# Altium schematic symbol library LED.SchLib: 41 symbols
Pins are listed as number, name and electrical type; pins without a type are passive.

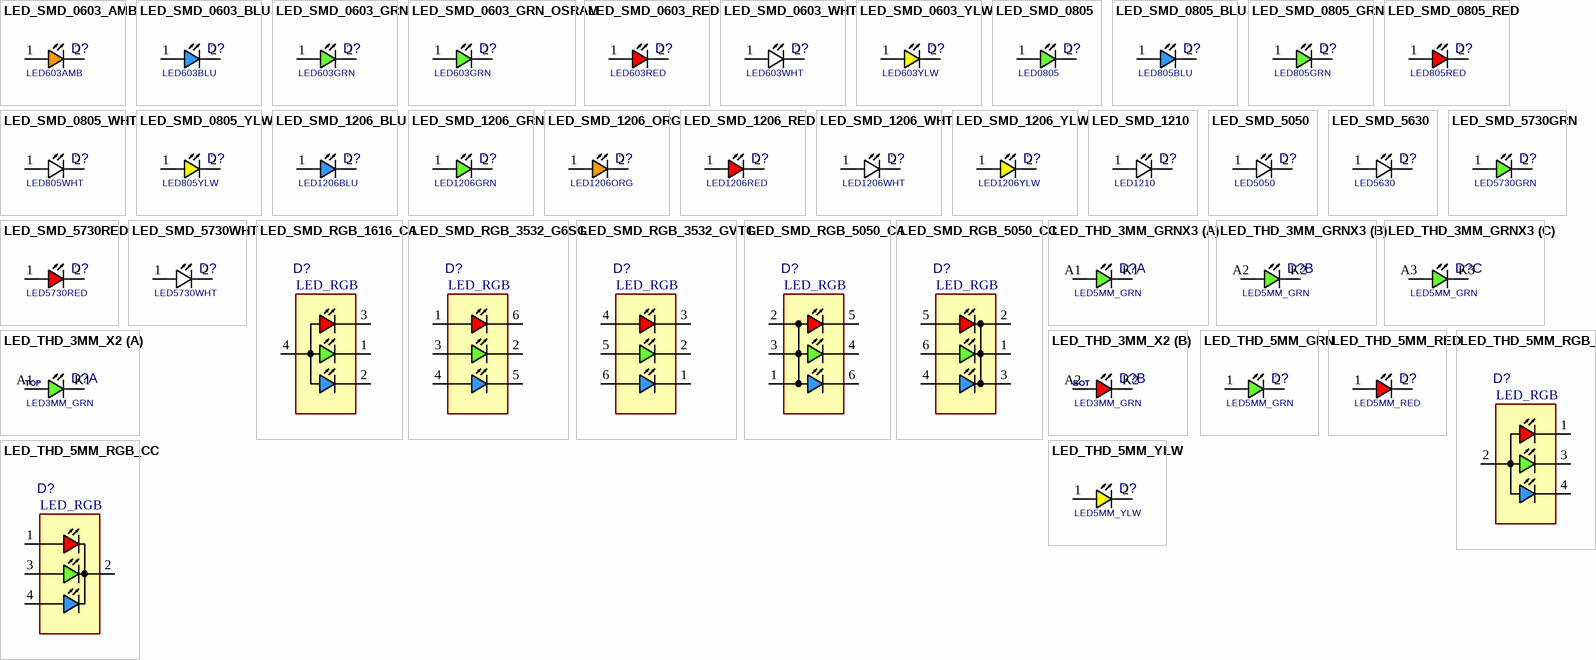
[diagram p0: symbols LED_SMD_0603_AMB to LED_THD_5MM_YLW]

## LED_SMD_0603_AMB
designator D?, comment LED603AMB
LED, SMD, 0603, AMBER, 606nm; PARAM: 30mA; MANF: OSRAM; DESC: DESCRIPTION; MANF_P#: L29K-H2K1-24-Z; PARAM2: 1.8V; ASSEMBLY: ASSEMBLY; PRICE: PRICE; VALUE: LED603AMB
footprint LED0603AMB (LED SMD 0603, AMBER)
pins: 1 ANODE, 2 CATHODE

## LED_SMD_0603_BLU
designator D?, comment LED603BLU
LED, SMD, 0603, BLUE; PARAM: 30mA, 470nm, 120° Angle; DESC: DESCRIPTION; MANF_P#: MANF_PART#; PARAM2: 2.2~3V; MANF: MANF; ASSEMBLY: ASSEMBLY; PRICE: PRICE; VALUE: LED603BLU
footprint LED0603BLU (LED SMD 0603, BLUE)
pins: 1 ANODE, 2 CATHODE

## LED_SMD_0603_GRN
designator D?, comment LED603GRN
LED, SMD, 0603, GREEN; PARAM: 20mA; MANF: Kingbright; DESC: DESCRIPTION; MANF_P#: APT1608SGC; PARAM2: 2.2V; ASSEMBLY: ASSEMBLY; PRICE: 1: 0.14$, 100: 6.8$; VALUE: LED603GRN
footprint LED0603GRN (LED SMD 0603, GREEN)
pins: 1 ANODE, 2 CATHODE

## LED_SMD_0603_GRN_OSRAM
designator D?, comment LED603GRN
LED, SMD, 0603, GREEN; PARAM: 20mA; MANF: OSRAM; DESC: DESCRIPTION; MANF_P#: LG Q396-PS-35; PARAM2: 2.2V; ASSEMBLY: ASSEMBLY; PRICE: 0.36$; VALUE: LED603GRN
footprint LED0603GRN (LED SMD 0603, GREEN)
pins: 1 ANODE, 2 CATHODE

## LED_SMD_0603_RED
designator D?, comment LED603RED
LED, SMD, 0603, RED; PARAM: 30mA, 640nm; DESC: DESCRIPTION; MANF_P#: MANF_PART#; PARAM2: 1.8~2.5V; MANF: MANF; ASSEMBLY: ASSEMBLY; PRICE: PRICE; VALUE: LED603RED
footprint LED0603RED (LED SMD 0603, RED)
pins: 1 ANODE, 2 CATHODE

## LED_SMD_0603_WHT
designator D?, comment LED603WHT
LED, SMD, 0603, WHITE; PARAM: 30mA; DESC: DESCRIPTION; MANF_P#: MANF_PART#; PARAM2: 2.7~4V; MANF: MANF; ASSEMBLY: ASSEMBLY; PRICE: PRICE; VALUE: LED603WHT
footprint LED0603WHT (LED SMD 0603, WHITE)
pins: 1 ANODE, 2 CATHODE

## LED_SMD_0603_YLW
designator D?, comment LED603YLW
LED, SMD, 0603, YELLOW; DESC: DESCRIPTION; MANF_P#: MANF_PART#; PARAM2: 2.2V; MANF: MANF; ASSEMBLY: ASSEMBLY; PRICE: PRICE; VALUE: LED603YLW
footprint LED0603YLW (LED SMD 0603, YELLOW)
pins: 1 ANODE, 2 CATHODE

## LED_SMD_0805
designator D?, comment LED0805
LED, SMD, 0805; DESC: DESCRIPTION; MANF_P#: MANF_PART#; PARAM2: 2.2V; MANF: MANF; ASSEMBLY: ASSEMBLY; PRICE: PRICE; VALUE: LED0805
footprint LED0805 (0805LED)
footprint LED0805SIDE (Footprint not found)
pins: 1 ANODE, 2 CATHODE

## LED_SMD_0805_BLU
designator D?, comment LED805BLU
LED, SMD, 0805, BLUE; DESC: DESCRIPTION; MANF_P#: MANF_PART#; PARAM2: 2.2V; MANF: MANF; ASSEMBLY: ASSEMBLY; PRICE: 36t@Javan; VALUE: LED805BLU
footprint LED0805BLU (LED SMD 0805, BLUE)
pins: 1 ANODE, 2 CATHODE

## LED_SMD_0805_GRN
designator D?, comment LED805GRN
LED, SMD, 0805, GREEN; PARAM: 20mA; DESC: DESCRIPTION; PARAM2: 2.2V; MANF: -; ASSEMBLY: ASSEMBLY; PRICE: 36t@Javan; MANF_P#: -; VALUE: LED805GRN
footprint LED0805GRN (LED SMD 0805, GREEN)
pins: 1 ANODE, 2 CATHODE

## LED_SMD_0805_RED
designator D?, comment LED805RED
LED, SMD, 0805, RED; DESC: DESCRIPTION; MANF_P#: MANF_PART#; PARAM2: 2.2V; MANF: MANF; ASSEMBLY: ASSEMBLY; PRICE: 36t@Javan; VALUE: LED805RED
footprint LED0805RED (LED SMD 0805, RED)
pins: 1 ANODE, 2 CATHODE

## LED_SMD_0805_WHT
designator D?, comment LED805WHT
LED, SMD, 0805, WHITE; DESC: DESCRIPTION; MANF_P#: MANF_PART#; PARAM2: 2.2V; MANF: MANF; ASSEMBLY: ASSEMBLY; PRICE: 36t@Javan; VALUE: LED805WHT
footprint LED0805WHT (LED SMD 0805, WHITE)
pins: 1 ANODE, 2 CATHODE

## LED_SMD_0805_YLW
designator D?, comment LED805YLW
LED, SMD, 0805, YELLOW; DESC: DESCRIPTION; MANF_P#: MANF_PART#; PARAM2: 2.2V; MANF: MANF; ASSEMBLY: ASSEMBLY; PRICE: 36t@Javan; VALUE: LED805YLW
footprint LED0805YLW (LED SMD 0805, YELLOW)
pins: 1 ANODE, 2 CATHODE

## LED_SMD_1206_BLU
designator D?, comment LED1206BLU
LED, SMD, 1206, BLUE; DESC: DESCRIPTION; MANF_P#: MANF_PART#; PARAM2: 2.2V; MANF: MANF; ASSEMBLY: ASSEMBLY; PRICE: 36t@Javan; VALUE: LED1206BLU
footprint LED1206BLU (LED, 1206, BLUE)
pins: 1 ANODE, 2 CATHODE

## LED_SMD_1206_GRN
designator D?, comment LED1206GRN
LED, SMD, 1206, GREEN; PARAM: 20mA; DESC: DESCRIPTION; PARAM2: 2.2V; MANF: -; ASSEMBLY: ASSEMBLY; PRICE: 36t@Javan; MANF_P#: -; VALUE: LED1206GRN
footprint LED1206GRN (LED, 1206, GREEN)
pins: 1 ANODE, 2 CATHODE

## LED_SMD_1206_ORG
designator D?, comment LED1206ORG
LED, SMD, 1206, ORANGE; DESC: DESCRIPTION; MANF_P#: MANF_PART#; PARAM2: 2.2V; MANF: MANF; ASSEMBLY: ASSEMBLY; PRICE: 36t@Javan; VALUE: LED1206ORG
footprint LED1206ORG (LED, 1206, ORANGE)
pins: 1 ANODE, 2 CATHODE

## LED_SMD_1206_RED
designator D?, comment LED1206RED
LED, SMD, 1206, RED; DESC: DESCRIPTION; MANF_P#: MANF_PART#; PARAM2: 2.2V; MANF: MANF; ASSEMBLY: ASSEMBLY; PRICE: 36t@Javan; VALUE: LED1206RED
footprint LED1206RED (LED, 1206, RED)
pins: 1 ANODE, 2 CATHODE

## LED_SMD_1206_WHT
designator D?, comment LED1206WHT
LED, SMD, 1206, WHITE; DESC: DESCRIPTION; MANF_P#: MANF_PART#; PARAM2: 2.2V; MANF: MANF; ASSEMBLY: ASSEMBLY; PRICE: 36t@Javan; VALUE: LED1206WHT
footprint LED1206WHT (LED, 1206, WHITE)
pins: 1 ANODE, 2 CATHODE

## LED_SMD_1206_YLW
designator D?, comment LED1206YLW
LED, SMD, 1206, YELLOW; DESC: DESCRIPTION; MANF_P#: MANF_PART#; PARAM2: 2.2V; MANF: MANF; ASSEMBLY: ASSEMBLY; PRICE: 36t@Javan; VALUE: LED1206YLW
footprint LED1206YLW (LED, 1206, YELLOW)
pins: 1 ANODE, 2 CATHODE

## LED_SMD_1210
designator D?, comment LED1210
LED, SMD, 1210; DESC: DESCRIPTION; MANF_P#: MANF_PART#; PARAM2: 2.2V; MANF: MANF; ASSEMBLY: ASSEMBLY; PRICE: PRICE; VALUE: LED1210
footprint LED1210
pins: 1 ANODE, 2 CATHODE

## LED_SMD_5050
designator D?, comment LED5050
LED, SMD, 5050; DESC: DESCRIPTION; MANF_P#: MANF_PART#; PARAM2: 2.2V; MANF: MANF; ASSEMBLY: ASSEMBLY; PRICE: PRICE; VALUE: LED5050
footprint LED5050 (LED 5mmX5mm)
pins: 1 ANODE, 2 CATHODE

## LED_SMD_5630
designator D?, comment LED5630
LED, SMD, 5630; DESC: DESCRIPTION; MANF_P#: MANF_PART#; PARAM2: 2.2V; MANF: MANF; ASSEMBLY: ASSEMBLY; PRICE: PRICE; VALUE: LED5630
footprint LED5630 (LED 5.6mmX3mm)
pins: 1 ANODE, 2 CATHODE

## LED_SMD_5730GRN
designator D?, comment LED5730GRN
LED, SMD, 5730 GREEN; MANF: CHINA; DESC: DESCRIPTION; MANF_P#: GBG-5730TGKT; PARAM2: 2.2V; ASSEMBLY: ASSEMBLY; PRICE: 50@Javan; VALUE: LED5730GRN
footprint LED5730 (LED 5.7mmX3mm)
pins: 1 ANODE, 2 CATHODE

## LED_SMD_5730RED
designator D?, comment LED5730RED
LED, SMD, 5730 RED; MANF: CHINA; DESC: DESCRIPTION; PARAM2: 2.2V; ASSEMBLY: ASSEMBLY; PRICE: 50@Javan; VALUE: LED5730RED
footprint LED5730 (LED 5.7mmX3mm)
pins: 1 ANODE, 2 CATHODE

## LED_SMD_5730WHT
designator D?, comment LED5730WHT
LED, SMD, 5730 WHITE; DESC: DESCRIPTION; MANF_P#: MANF_PART#; PARAM2: 2.2V; MANF: MANF; ASSEMBLY: ASSEMBLY; PRICE: 50t@Javan; VALUE: LED5730WHT
footprint LED5730 (LED 5.7mmX3mm)
pins: 1 ANODE, 2 CATHODE

## LED_SMD_RGB_1616_CA
designator D?, comment LED_RGB
LED, SMD, RGB COMMON ANODE; MANF_P#: LTST-C19HE1WT; MANF: Lite-On; DESC: DESCRIPTION; ASSEMBLY: ASSEMBLY; PRICE: PRICE; VALUE: LED_RGB
footprint LED0606RGB (1.6x1.6mm  RGB LED LTST-C19HE1WT)
pins: 1 GREEN, 2 BLUE, 3 RED, 4 ANODE

## LED_SMD_RGB_3532_G6SG
designator D?, comment LED_RGB
LED, SMD, RGB G6SG; MANF_P#: LRTB G6SG-U4AA-1+V2A6-25+S1T; MANF: OSRAM; PARAM: 50mA, 120°; DESC: DESCRIPTION; PARAM2: RED1.8V, GRN2.9V, BLU2.9V; ASSEMBLY: ASSEMBLY; PRICE: PRICE; VALUE: LED_RGB
footprint LED3532RGB (LED 3.5mmX3.2mm, LRTB G6SG PLLC6)
pins: 1 A1, 2 C2, 3 A2, 4 A3, 5 C3, 6 C1

## LED_SMD_RGB_3532_GVTG
designator D?, comment LED_RGB
LED, SMD, RGB GVTG; MANF_P#: LRTB GVTG-U5V5-1+A5B5-29+S9T; MANF: OSRAM; PARAM: 50mA, 120°; DESC: DESCRIPTION; PARAM2: RED1.8V, GRN2.9V, BLU2.9V; ASSEMBLY: ASSEMBLY; PRICE: PRICE; VALUE: LED_RGB
footprint LED3532RGB (LED 3.5mmX3.2mm, LRTB G6SG PLLC6)
pins: 1 C3, 2 C2, 3 C1, 4 A1, 5 A2, 6 A3

## LED_SMD_RGB_5050_CA
designator D?, comment LED_RGB
LED, SMD, RGB COMMON ANODE; PARAM: 30mA, 120°; DESC: DESCRIPTION; PARAM2: RED2V, GRN3.2V, BLU3.2V; MANF_P#: -; MANF: -; ASSEMBLY: ASSEMBLY; PRICE: 80t@JAVAN; VALUE: LED_RGB
footprint LED5050RGB (LED 5mmX5mm, PLLC6)
pins: 1 AB, 2 AG, 3 AR, 4 RED, 5 GRN, 6 BLU

## LED_SMD_RGB_5050_CC
designator D?, comment LED_RGB
LED, SMD, RGB COMMON CATHODE; PARAM: 30mA, 120°; DESC: DESCRIPTION; PARAM2: RED2V, GRN3.2V, BLU3.2V; MANF_P#: -; MANF: -; ASSEMBLY: ASSEMBLY; PRICE: 95t@JAVAN; VALUE: LED_RGB
footprint LED5050RGB (LED 5mmX5mm, PLLC6)
pins: 1 RED, 2 GRN, 3 BLU, 4 AB, 5 AG, 6 AR

## LED_THD_3MM_GRNX3
designator D?, comment LED5MM_GRN
LED, THD, 5MM, GREEN TRI LEVEL; DESC: DESCRIPTION; MANF_P#: MANF_PART#; PARAM2: 2.2V; MANF: MANF; ASSEMBLY: ASSEMBLY; PRICE: PRICE; VALUE: LED5MM_GRN
footprint LED3MMRX3 (Footprint not found)
part A pins: A1 ANODE, K1 CATHODE
part B pins: A2 ANODE, K2 CATHODE
part C pins: A3 ANODE, K3 CATHODE

## LED_THD_3MM_X2
designator D?, comment LED3MM_GRN
LED, THD, 3MM, DUAL LEVEL; MANF: Dialight; DESC: DESCRIPTION; MANF_P#: 553-0121F; PARAM2: 2.2V; ASSEMBLY: ASSEMBLY; PRICE: PRICE; VALUE: LED3MM_GRN
footprint LED3MMRX2 (Footprint not found)
part A pins: A1 ANODE, K1 CATHODE
part B pins: A2 ANODE, K2 CATHODE
part A text: TOP
part B text: BOT

## LED_THD_5MM_GRN
designator D?, comment LED5MM_GRN
LED, THD, 5MM, GREEN; DESC: DESCRIPTION; MANF_P#: MANF_PART#; PARAM2: 2.2V; MANF: MANF; ASSEMBLY: ASSEMBLY; PRICE: PRICE; VALUE: LED5MM_GRN
footprint LED5MM_GRN (LED 5MM THROUGH HOLE GREEN)
pins: 1 ANODE, 2 CATHODE

## LED_THD_5MM_RED
designator D?, comment LED5MM_RED
LED, THD, 5MM, RED; DESC: DESCRIPTION; MANF_P#: MANF_PART#; PARAM2: 2.2V; MANF: MANF; ASSEMBLY: ASSEMBLY; PRICE: PRICE; VALUE: LED5MM_RED
footprint LED5MM_RED (LED 5MM THROUGH HOLE RED)
pins: 1 ANODE, 2 CATHODE

## LED_THD_5MM_RGB_CA
designator D?, comment LED_RGB
LED, THD, 5MM, RGB COMMON CATHODE; MANF_P#: YSL-R596CR3G4B5C-C10; MANF: CHINA YOUNG; DESC: DESCRIPTION; ASSEMBLY: ASSEMBLY; PRICE: PRICE; VALUE: LED_RGB
footprint LED5RGB (Footprint not found)
pins: 1 RED, 2 C, 3 GRN, 4 BLU

## LED_THD_5MM_RGB_CC
designator D?, comment LED_RGB
LED, THD, 5MM, RGB COMMON CATHODE; MANF_P#: YSL-R596CR3G4B5C-C10; MANF: CHINA YOUNG; DESC: DESCRIPTION; ASSEMBLY: ASSEMBLY; PRICE: PRICE; VALUE: LED_RGB
footprint LED5RGB (Footprint not found)
pins: 1 RED, 2 C, 3 GRN, 4 BLU

## LED_THD_5MM_YLW
designator D?, comment LED5MM_YLW
LED, THD, 5MM, YELLOW; DESC: DESCRIPTION; MANF_P#: MANF_PART#; PARAM2: 2.2V; MANF: MANF; ASSEMBLY: ASSEMBLY; PRICE: PRICE; VALUE: LED5MM_YLW
footprint LED5MM_YLO (LED 5MM THROUGH HOLE YELLOW)
pins: 1 ANODE, 2 CATHODE

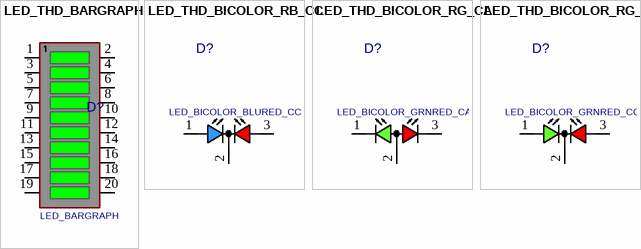
[diagram p1: symbols LED_THD_BARGRAPH to LED_THD_BICOLOR_RG_CC]

## LED_THD_BARGRAPH
designator D?, comment LED_BARGRAPH
LED, THD, BARGRAPH; DESC: DESCRIPTION; MANF_P#: CLSRD10A; PARAM2: 2.2V; MANF: MANF; ASSEMBLY: ASSEMBLY; PRICE: PRICE; VALUE: LED_BARGRAPH
footprint LED5MM_YLO (LED 5MM THROUGH HOLE YELLOW)
pins: 1 A1, 2 B1, 3 A2, 4 B2, 5 A3, 6 B3, 7 A4, 8 B4, 9 A5, 10 B5, 11 A6, 12 B6, 13 A7, 14 B7, 15 A8, 16 B8, 17 A9, 18 B9, 19 A10, 20 B10

## LED_THD_BICOLOR_RB_CC
designator D?, comment LED_BICOLOR_BLURED_CC
LED, THD, 5MM, BICOLOR CC BLURED; MANF_P#: R304Y31BC; DESC: DESCRIPTION; MANF: MANF; ASSEMBLY: ASSEMBLY; PRICE: PRICE; VALUE: LED_BICOLOR_BLURED_CC
footprint LED5BI (Footprint not found)
pins: 1 RED, 2 C, 3 GRN

## LED_THD_BICOLOR_RG_CA
designator D?, comment LED_BICOLOR_GRNRED_CA
LED, THD, 5MM, BICOLOR CA GRNRED; MANF_P#: MANF_PART#; DESC: DESCRIPTION; MANF: MANF; ASSEMBLY: ASSEMBLY; PRICE: PRICE; VALUE: LED_BICOLOR_GRNRED_CA
footprint LED5BI (Footprint not found)
pins: 1 RED, 2 C, 3 GRN

## LED_THD_BICOLOR_RG_CC
designator D?, comment LED_BICOLOR_GRNRED_CC
LED, THD, 5MM, BICOLOR CC GRNRED; MANF_P#: CXY-5MM-MRG1; DESC: DESCRIPTION; MANF: MANF; ASSEMBLY: ASSEMBLY; PRICE: PRICE; VALUE: LED_BICOLOR_GRNRED_CC
footprint LED5BI (Footprint not found)
pins: 1 RED, 2 C, 3 GRN